# Altium schematic symbol library CAP,Cer,100nF,10%,630V,X7R,1808.Schlib: 1 symbol
Pins are listed as number, name and electrical type; pins without a type are passive.

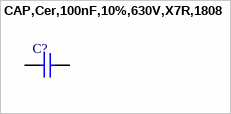
[diagram p0: symbol CAP,Cer,100nF,10%,630V,X7R,1808]

## CAP,Cer,100nF,10%,630V,X7R,1808
designator C?
pins: 1, 2